# Altium schematic symbol library SCH - OPAMP - LM358DR.SCHLIB: 1 symbol
Pins are listed as number, name and electrical type; pins without a type are passive.

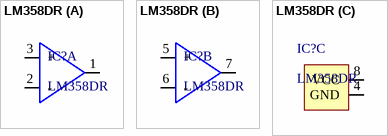
[diagram p0: symbol LM358DR]

## LM358DR
designator IC?
Dual Op Amp
part A pins: 1, 2 -, 3 +
part B pins: 5 +, 6 -, 7
part C pins: 4 GND, 8 VCC